# Altium footprint library PHOTODIODE_V1.3.0.PcbLib: 26 footprints (part 2 of 2)
Each footprint in its own frame and in the unit in brackets; x right, y up, seen from the top. Pads: shape width x height; smd on the part's side, far side on the other; paste and mask are expansions set on the pad; w line width, h text height; cw(c..) or ccw(c..) is an arc to the next point about the centre after c.
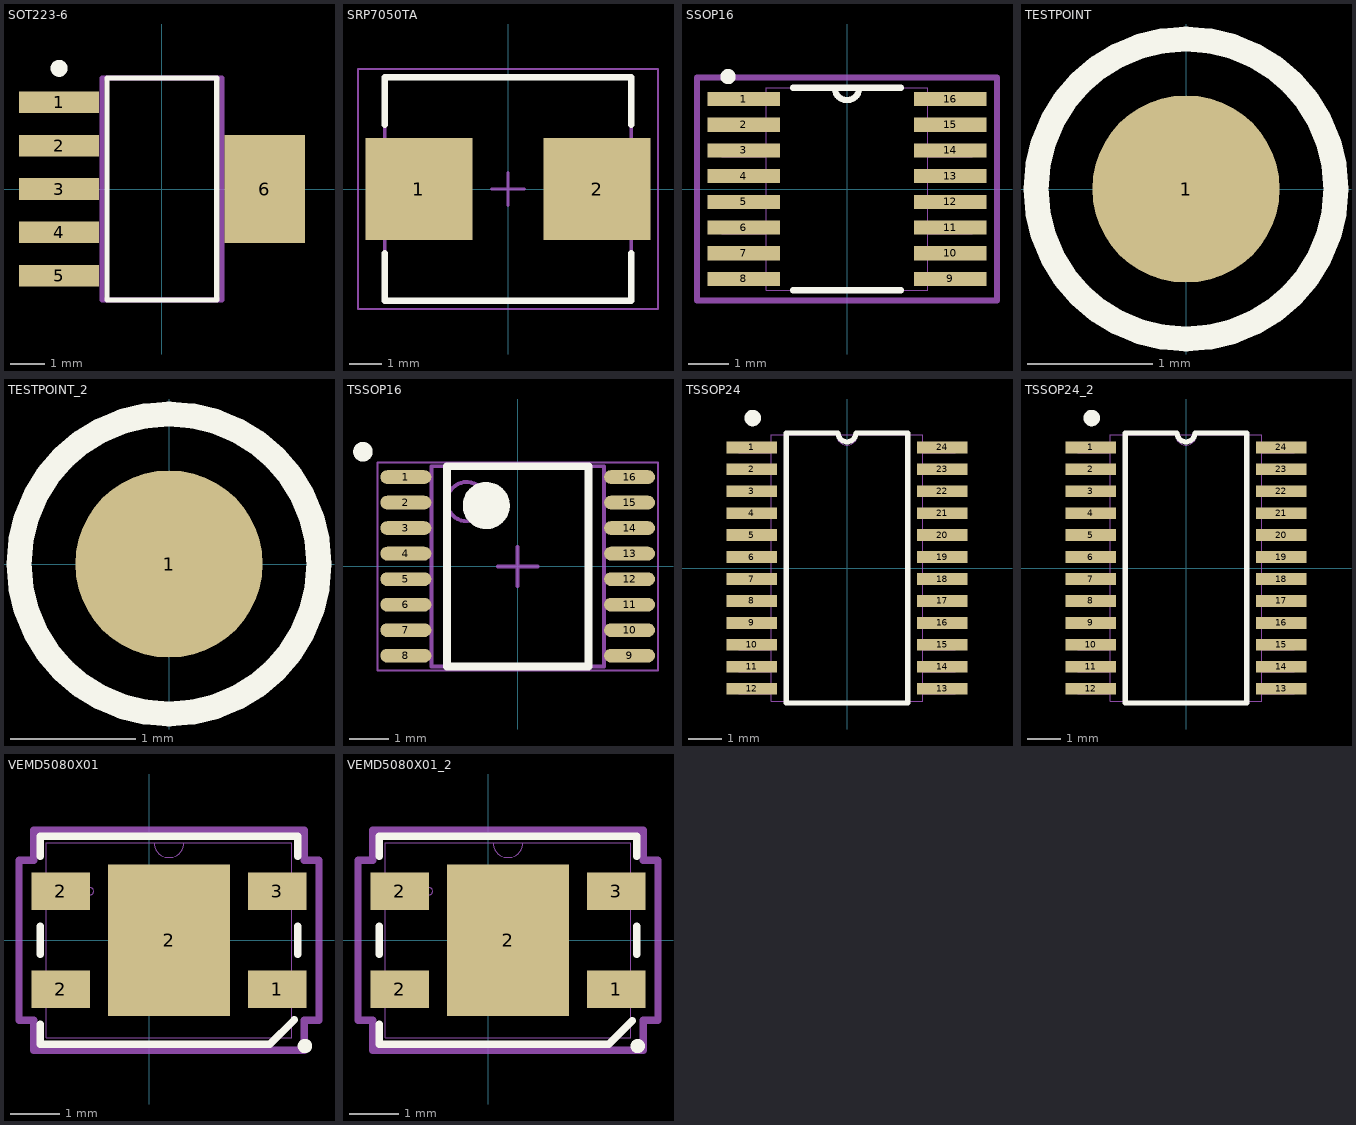
[diagram p1: the footprints below, top view; thin cyan lines are the x and y axes]

## SOT223-6 [mm]
height 5.08
pads (6):
  rect 2.346x0.632 smd paste+0 mask+0.05: 1(-3.01,2.54) 2(-3.01,1.27) 3(-3.01,0) 4(-3.01,-1.27) 5(-3.01,-2.54)
  rect 2.346x3.172 smd paste+0 mask+0.05: 6(3.01,0)
Top Overlay:
  circle w0.25: c-3.01,3.53 r0.125
  lines w0.15: -1.603,-3.25 -1.603,3.25 1.603,3.25 1.603,-3.25 -1.603,-3.25
Top 3D Body:
  lines w0.15: -1.753,-3.25 -1.753,3.25 1.753,3.25 1.753,-3.25 -1.753,-3.25
3D body "DCQ0006A.stp": height 1.66, standoff 0, extent -3.554,-3.25 3.554,3.25

## SRP7050TA [mm] "Precision Wire Wound Inductor, 2-Leads, Body 7.30x6.60mm, IPC Medium Density"
height 4.8
pads (2):
  rect 3.3x3.15 smd: 1(-2.75,0) 2(2.75,0)
Top Overlay:
  lines w0.2: -3.8,-1.975 -3.8,-3.45 3.8,-3.45 3.8,-1.975 ; -3.8,1.975 -3.8,3.45 3.8,3.45 3.8,1.975
Top 3D Body:
  lines w0.1: -3.8,-3.45 3.8,-3.45 3.8,3.45 -3.8,3.45 -3.8,-3.45
Top Courtyard:
  lines w0.05: -4.625,-3.7 4.625,-3.7 4.625,3.7 -4.625,3.7 -4.625,-3.7
  lines w0.1: -0.5,0 0.5,0 ; 0,-0.5 0,0.5
3D body "PSM6050 Molded high current inductor.STEP": height 4.91, standoff -0.05, extent -3.6,-3.3 3.6,3.3

## SSOP16 [mm]
height 5.08
pads (16):
  rect 1.8x0.35 smd mask+0.05: 1(-2.553,2.222) 2(-2.553,1.587) 3(-2.553,0.953) 4(-2.553,0.318) 5(-2.553,-0.318) 6(-2.553,-0.953) 7(-2.553,-1.587) 8(-2.553,-2.222) 9(2.553,-2.222) 10(2.553,-1.587) 11(2.553,-0.953) 12(2.553,-0.318) 13(2.553,0.318) 14(2.553,0.953) 15(2.553,1.587) 16(2.553,2.222)
Top Overlay:
  circle w0.254: c-2.941,2.778 r0.06
  lines w0.152: -1.334,-2.502 1.334,-2.502 ; -1.334,2.502 1.334,2.502 ; -0.305,2.502 ccw(c0,2.502) 0.305,2.502
Top 3D Body:
  lines w0: -0.305,2.502 ccw(c0,2.502) 0.305,2.502
  lines w0.025: -3.099,-2.375 -1.994,-2.375 -1.994,-2.07 -3.099,-2.07 -3.099,-2.375 ; -3.099,-1.74 -1.994,-1.74 -1.994,-1.435 -3.099,-1.435 -3.099,-1.74 ; -3.099,-1.105 -1.994,-1.105 -1.994,-0.8 -3.099,-0.8 -3.099,-1.105 ; -3.099,-0.47 -1.994,-0.47 -1.994,-0.165 -3.099,-0.165 -3.099,-0.47 ; -3.099,0.165 -1.994,0.165 -1.994,0.47 -3.099,0.47 -3.099,0.165 ; -3.099,0.8 -1.994,0.8 -1.994,1.105 -3.099,1.105 -3.099,0.8 ; -3.099,1.435 -1.994,1.435 -1.994,1.74 -3.099,1.74 -3.099,1.435 ; -3.099,2.07 -1.994,2.07 -1.994,2.375 -3.099,2.375 -3.099,2.07 ; -1.994,-2.502 -1.994,2.502 1.994,2.502 1.994,-2.502 -1.994,-2.502 ; 1.994,-2.375 3.099,-2.375 3.099,-2.07 1.994,-2.07 1.994,-2.375 ; 1.994,-1.74 3.099,-1.74 3.099,-1.435 1.994,-1.435 1.994,-1.74 ; 1.994,-1.105 3.099,-1.105 3.099,-0.8 1.994,-0.8 1.994,-1.105 ; 1.994,-0.47 3.099,-0.47 3.099,-0.165 1.994,-0.165 1.994,-0.47 ; 1.994,0.165 3.099,0.165 3.099,0.47 1.994,0.47 1.994,0.165 ; 1.994,0.8 3.099,0.8 3.099,1.105 1.994,1.105 1.994,0.8 ; 1.994,1.435 3.099,1.435 3.099,1.74 1.994,1.74 1.994,1.435 ; 1.994,2.07 3.099,2.07 3.099,2.375 1.994,2.375 1.994,2.07
Top Courtyard:
  lines w0.152: -3.708,-2.756 3.708,-2.756 3.708,2.756 -3.708,2.756 -3.708,-2.756
3D body "OPA4340EA_2K5.step": height 1.75, standoff 0, extent -2.997,-2.451 2.997,2.451

## TESTPOINT [mm]
pads (1):
  round 1.5 smd paste+0: 1(0,0)
Top Overlay:
  circle w0.2: c0,0 r1.2

## TESTPOINT_2 [mm]
pads (1):
  round 1.5 smd paste+0: 1(0,0)
Top Overlay:
  circle w0.2: c0,0 r1.2

## TSSOP16 [mm] "TSSOP, 16-Leads, Body 5.10x4.40mm, Pitch 0.65mm, IPC High Density"
height 1.2
pads (16):
  oval 1.3x0.35 smd mask+0.05: 1(-2.85,2.275) 2(-2.85,1.625) 3(-2.85,0.975) 4(-2.85,0.325) 5(-2.85,-0.325) 6(-2.85,-0.975) 7(-2.85,-1.625) 8(-2.85,-2.275) 9(2.85,-2.275) 10(2.85,-1.625) 11(2.85,-0.975) 12(2.85,-0.325) 13(2.85,0.325) 14(2.85,0.975) 15(2.85,1.625) 16(2.85,2.275)
Top Overlay:
  circle w0.6: c-0.8,1.55 r0.3
  circle w0.25: c-3.943,2.921 r0.125
  lines w0.2: -1.8,-2.55 1.8,-2.55 1.8,2.55 -1.8,2.55 -1.8,-2.55
Top 3D Body:
  circle w0.1: c-1.3,1.65 r0.5
  lines w0.1: -2.2,-2.55 2.2,-2.55 2.2,2.55 -2.2,2.55 -2.2,-2.55
Top Courtyard:
  lines w0.05: -3.575,-2.65 3.575,-2.65 3.575,2.65 -3.575,2.65 -3.575,-2.65
  lines w0.1: -0.5,0 0.5,0 ; 0,-0.5 0,0.5
3D body "User Library-IPC SO.step": height 1.25, standoff 0, extent -3.228,-2.53 3.228,2.57

## TSSOP24 [mm]
height 8.54
pads (24):
  rect 1.5x0.35 smd mask+0.08: 1(-2.819,3.575) 2(-2.819,2.925) 3(-2.819,2.275) 4(-2.819,1.625) 5(-2.819,0.975) 6(-2.819,0.325) 7(-2.819,-0.325) 8(-2.819,-0.975) 9(-2.819,-1.625) 10(-2.819,-2.275) 11(-2.819,-2.925) 12(-2.819,-3.575) 13(2.819,-3.575) 14(2.819,-2.925) 15(2.819,-2.275) 16(2.819,-1.625) 17(2.819,-0.975) 18(2.819,-0.325) 19(2.819,0.325) 20(2.819,0.975) 21(2.819,1.625) 22(2.819,2.275) 23(2.819,2.925) 24(2.819,3.575)
Top Overlay:
  circle w0.25: c-2.794,4.445 r0.12
  lines w0.15: -1.8,-4 1.8,-4 1.8,4 0.262,4 cw(c0,4) -0.262,4 -1.8,4 -1.8,-4
Top 3D Body:
  lines w0: -0.305,3.95 ccw(c0,3.95) 0.305,3.95
  lines w0.025: -3.2,-3.727 -2.248,-3.727 -2.248,-3.423 -3.2,-3.423 -3.2,-3.727 ; -3.2,-3.077 -2.248,-3.077 -2.248,-2.773 -3.2,-2.773 -3.2,-3.077 ; -3.2,-2.427 -2.248,-2.427 -2.248,-2.123 -3.2,-2.123 -3.2,-2.427 ; -3.2,-1.777 -2.248,-1.777 -2.248,-1.473 -3.2,-1.473 -3.2,-1.777 ; -3.2,-1.127 -2.248,-1.127 -2.248,-0.823 -3.2,-0.823 -3.2,-1.127 ; -3.2,-0.477 -2.248,-0.477 -2.248,-0.173 -3.2,-0.173 -3.2,-0.477 ; -3.2,0.173 -2.248,0.173 -2.248,0.477 -3.2,0.477 -3.2,0.173 ; -3.2,0.823 -2.248,0.823 -2.248,1.127 -3.2,1.127 -3.2,0.823 ; -3.2,1.473 -2.248,1.473 -2.248,1.777 -3.2,1.777 -3.2,1.473 ; -3.2,2.123 -2.248,2.123 -2.248,2.427 -3.2,2.427 -3.2,2.123 ; -3.2,2.773 -2.248,2.773 -2.248,3.077 -3.2,3.077 -3.2,2.773 ; -3.2,3.423 -2.248,3.423 -2.248,3.727 -3.2,3.727 -3.2,3.423 ; -2.248,-3.95 -2.248,3.95 2.248,3.95 2.248,-3.95 -2.248,-3.95 ; 2.248,-3.727 3.2,-3.727 3.2,-3.423 2.248,-3.423 2.248,-3.727 ; 2.248,-3.077 3.2,-3.077 3.2,-2.773 2.248,-2.773 2.248,-3.077 ; 2.248,-2.427 3.2,-2.427 3.2,-2.123 2.248,-2.123 2.248,-2.427 ; 2.248,-1.777 3.2,-1.777 3.2,-1.473 2.248,-1.473 2.248,-1.777 ; 2.248,-1.127 3.2,-1.127 3.2,-0.823 2.248,-0.823 2.248,-1.127 ; 2.248,-0.477 3.2,-0.477 3.2,-0.173 2.248,-0.173 2.248,-0.477 ; 2.248,0.173 3.2,0.173 3.2,0.477 2.248,0.477 2.248,0.173 ; 2.248,0.823 3.2,0.823 3.2,1.127 2.248,1.127 2.248,0.823 ; 2.248,1.473 3.2,1.473 3.2,1.777 2.248,1.777 2.248,1.473 ; 2.248,2.123 3.2,2.123 3.2,2.427 2.248,2.427 2.248,2.123 ; 2.248,2.773 3.2,2.773 3.2,3.077 2.248,3.077 2.248,2.773 ; 2.248,3.423 3.2,3.423 3.2,3.727 2.248,3.727 2.248,3.423
3D body "User Library-IPC SO.step": height 1.25, standoff 0, extent -3.228,-3.95 3.228,3.95

## TSSOP24_2 [mm]
pads (24):
  rect 1.5x0.35 smd mask+0.08: 1(-2.819,3.575) 2(-2.819,2.925) 3(-2.819,2.275) 4(-2.819,1.625) 5(-2.819,0.975) 6(-2.819,0.325) 7(-2.819,-0.325) 8(-2.819,-0.975) 9(-2.819,-1.625) 10(-2.819,-2.275) 11(-2.819,-2.925) 12(-2.819,-3.575) 13(2.819,-3.575) 14(2.819,-2.925) 15(2.819,-2.275) 16(2.819,-1.625) 17(2.819,-0.975) 18(2.819,-0.325) 19(2.819,0.325) 20(2.819,0.975) 21(2.819,1.625) 22(2.819,2.275) 23(2.819,2.925) 24(2.819,3.575)
Top Overlay:
  circle w0.25: c-2.794,4.445 r0.12
  lines w0.15: -1.8,-4 1.8,-4 1.8,4 0.262,4 cw(c0,4) -0.262,4 -1.8,4 -1.8,-4
Top 3D Body:
  lines w0: -0.305,3.95 ccw(c0,3.95) 0.305,3.95
  lines w0.025: -3.2,-3.727 -2.248,-3.727 -2.248,-3.423 -3.2,-3.423 -3.2,-3.727 ; -3.2,-3.077 -2.248,-3.077 -2.248,-2.773 -3.2,-2.773 -3.2,-3.077 ; -3.2,-2.427 -2.248,-2.427 -2.248,-2.123 -3.2,-2.123 -3.2,-2.427 ; -3.2,-1.777 -2.248,-1.777 -2.248,-1.473 -3.2,-1.473 -3.2,-1.777 ; -3.2,-1.127 -2.248,-1.127 -2.248,-0.823 -3.2,-0.823 -3.2,-1.127 ; -3.2,-0.477 -2.248,-0.477 -2.248,-0.173 -3.2,-0.173 -3.2,-0.477 ; -3.2,0.173 -2.248,0.173 -2.248,0.477 -3.2,0.477 -3.2,0.173 ; -3.2,0.823 -2.248,0.823 -2.248,1.127 -3.2,1.127 -3.2,0.823 ; -3.2,1.473 -2.248,1.473 -2.248,1.777 -3.2,1.777 -3.2,1.473 ; -3.2,2.123 -2.248,2.123 -2.248,2.427 -3.2,2.427 -3.2,2.123 ; -3.2,2.773 -2.248,2.773 -2.248,3.077 -3.2,3.077 -3.2,2.773 ; -3.2,3.423 -2.248,3.423 -2.248,3.727 -3.2,3.727 -3.2,3.423 ; -2.248,-3.95 -2.248,3.95 2.248,3.95 2.248,-3.95 -2.248,-3.95 ; 2.248,-3.727 3.2,-3.727 3.2,-3.423 2.248,-3.423 2.248,-3.727 ; 2.248,-3.077 3.2,-3.077 3.2,-2.773 2.248,-2.773 2.248,-3.077 ; 2.248,-2.427 3.2,-2.427 3.2,-2.123 2.248,-2.123 2.248,-2.427 ; 2.248,-1.777 3.2,-1.777 3.2,-1.473 2.248,-1.473 2.248,-1.777 ; 2.248,-1.127 3.2,-1.127 3.2,-0.823 2.248,-0.823 2.248,-1.127 ; 2.248,-0.477 3.2,-0.477 3.2,-0.173 2.248,-0.173 2.248,-0.477 ; 2.248,0.173 3.2,0.173 3.2,0.477 2.248,0.477 2.248,0.173 ; 2.248,0.823 3.2,0.823 3.2,1.127 2.248,1.127 2.248,0.823 ; 2.248,1.473 3.2,1.473 3.2,1.777 2.248,1.777 2.248,1.473 ; 2.248,2.123 3.2,2.123 3.2,2.427 2.248,2.427 2.248,2.123 ; 2.248,2.773 3.2,2.773 3.2,3.077 2.248,3.077 2.248,2.773 ; 2.248,3.423 3.2,3.423 3.2,3.727 2.248,3.727 2.248,3.423
3D body "User Library-IPC SO.step": height 1.25, standoff 0, extent -3.228,-3.95 3.228,3.95

## VEMD5080X01 [mil]
height 336.22
pads (5):
  rect 47x30 smd paste+0 mask+0: 1(102.83,-39.37) 2(-71.17,-39.37) 2(-71.17,39.37) 3(102.83,39.37)
  rect 98x122 smd paste+0 mask+0: 2(15.83,0)
Top Overlay:
  circle w6: c125,-85 r2.76
  lines w6: -87.67,-67.47 -87.67,-83.5 96.83,-83.5 116.28,-64.06 ; -87.67,-11.27 -87.67,11.27 ; -87.67,67.47 -87.67,83.5 119.33,83.5 119.33,67.47 ; 119.33,-11.27 119.33,11.27
Top Paste:
  region: 60.89,-3.94 -29.24,-3.94 -29.24,-57.06 60.89,-57.06
  region: 60.89,57.06 -29.24,57.06 -29.24,3.94 60.89,3.94
Top 3D Body:
  circle w0: c-47.67,39.37 r3
  lines w0: 3.83,78.5 ccw(c15.83,78.5) 27.83,78.5
  lines w1: -82.67,-78.5 -82.67,78.5 114.33,78.5 114.33,-78.5 -82.67,-78.5
Top Courtyard:
  lines w6: -104.67,-64.37 -92.67,-64.37 -92.67,-88.5 124.33,-88.5 124.33,-64.37 136.33,-64.37 136.33,64.37 124.33,64.37 124.33,88.5 -92.67,88.5 -92.67,64.37 -104.67,64.37 -104.67,-64.37
3D body "SMD_VEMD5-5X4_VIS.step": height 41.1, standoff 0, extent -82.68,-78.5 114.33,78.5

## VEMD5080X01_2 [mil]
pads (5):
  rect 47x30 smd paste+0 mask+0: 1(102.83,-39.37) 2(-71.17,-39.37) 2(-71.17,39.37) 3(102.83,39.37)
  rect 98x122 smd paste+0 mask+0: 2(15.83,0)
Top Overlay:
  circle w6: c120,-85 r2.76
  lines w6: -87.67,-67.47 -87.67,-83.5 96.83,-83.5 115.8,-64.54 ; -87.67,-11.27 -87.67,11.27 ; -87.67,67.47 -87.67,83.5 119.33,83.5 119.33,67.47 ; 119.33,-11.27 119.33,11.27
Top Paste:
  region: 60.89,57.06 -29.24,57.06 -29.24,3.94 60.89,3.94
  region: 60.89,-3.94 -29.24,-3.94 -29.24,-57.06 60.89,-57.06
Top 3D Body:
  circle w0: c-47.67,39.37 r3
  lines w0: 3.83,78.5 ccw(c15.83,78.5) 27.83,78.5
  lines w1: -82.67,-78.5 114.33,-78.5 114.33,78.5 -82.67,78.5 -82.67,-78.5
Top Courtyard:
  lines w6: -104.67,-64.37 -104.67,64.37 -92.67,64.37 -92.67,88.5 124.33,88.5 124.33,64.37 136.33,64.37 136.33,-64.37 124.33,-64.37 124.33,-88.5 -92.67,-88.5 -92.67,-64.37 -104.67,-64.37
3D body "SMD_VEMD5-5X4_VIS.step": height 41.1, standoff 0, extent -82.68,-78.5 114.33,78.5